# Altium schematic symbol library Transistor.SchLib: 2 symbols
Pins are listed as number, name and electrical type; pins without a type are passive.

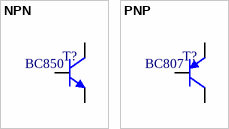
[diagram p0: symbols NPN to PNP]

## NPN
designator T?  Part No.: BC850  (hidden comment: *)
NPN Small Signal Trasmistor SOT-23; Manufacturer: ON Semiconductor; Vendor: Mouser; Price Est.: $0.10
footprint SOT-23 (SOT-23; 3 Leads; Body 3.0 x 2.6 mm, inc. leads (LxW max))
pins: 1 C, 2 B, 3 E

## PNP
designator T?  Part No.: BC807  (hidden comment: *)
PNP Small Signal Trasmistor SOT-23; Manufacturer: ON Semiconductor; Vendor: Mouser; Price Est.: $0.10
footprint SOT-23 (SOT-23; 3 Leads; Body 3.0 x 2.6 mm, inc. leads (LxW max))
pins: 1 C, 2 B, 3 E